# EAGLE library part 693023010811 (library Wurth_Connectors_WR-CRD)
WR-CRD Micro SIM Card Connector Push & Pull with Card Detection KIND PROPERTIES Quality Class:5000 Mating cycles Gender:Socket Type:Push & Pull General Information Operating Temperature:-25 up to +85 °C Compliance:RoHS Electrical Properties IR 1:1 A Working Voltage:30V (AC) Withstanding Voltage:500V (AC) Contact Resistance:100mΩ Material Properties Insulator MateriaL:LCP Insulator Flammability Rating:UL94 V-0 Color:Black Contact Material:Copper Alloy Contact Plating:Selective Gold Contact Type:Stamped Shielding Material:Stainless Steel Shielding Plating:Nickel <https://www.we-online.com/components/media/o33065v209%20Family_WR-CRD_Micro_SIM_PushPull_8Pins_693023010811.jpg> Details see: www.we-online.com/en/components/products/CRD_MICRO_SIM_PUSH_AND_PULL_CRD_DETECTION_8_PINS Updated by Ella Wu 2021-05-27 2021 (C) Würth Elektronik
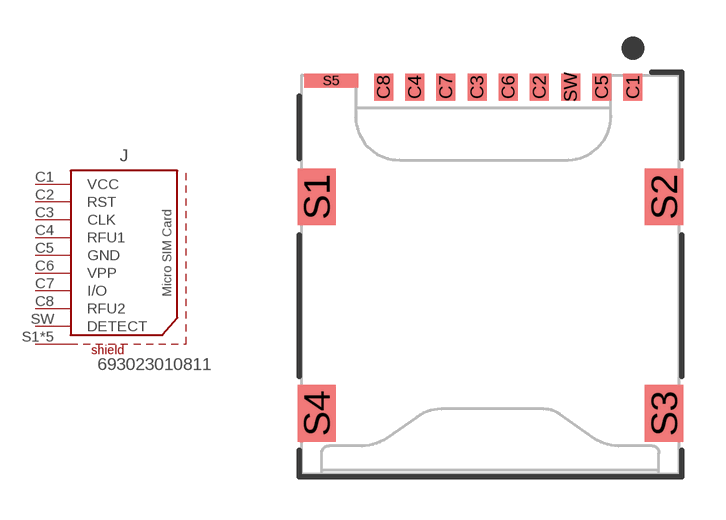
[diagram p14: symbol with the pads of 693023010811; footprint 693023010811]

Designator prefix J

## 693023010811 (DATASHEET-URL: https://www.we-online.com/redexpert/spec/693023010811?ae; GERDER: Socket; IR: 1A; MOUNT: SMT; PART-NUMBER: 693023010811; PINS: 8; TYPE: Push & Pull; VALUE: 693023010811; WORKING-VOLTAGE: 15V(AC))  [693023010811]
C1  VCC
C2  RST
C3  CLK
C4  RFU1
C5  GND
C6  VPP
C7  I/O
C8  RFU2
S1  SHIELD
S2  SHIELD
S3  SHIELD
S4  SHIELD
S5  SHIELD
SW  DETECT

## Footprint 693023010811 (pad centres in mm)
WR-CRD Micro SIM Card Connector Push & Pull with Card Detection
smd 0.67 x 0.95: C1 5.03,6.625; C2 1.73,6.625; C3 -0.47,6.625; C4 -2.67,6.625; C5 3.93,6.625; C6 0.63,6.625; C7 -1.57,6.625; C8 -3.77,6.625; SW 2.83,6.625
smd 1.35 x 2: S1 -6.13,2.75; S2 6.13,2.75; S3 6.13,-4.9; S4 -6.13,-4.9
smd 1.89 x 0.5: S5 -5.615,6.85